# EAGLE library part DF12E(*)-50DP-0.5V (library hirose-df12)
0.5mm Pitch SMT Board to Board Connector Source: http://www.hirose.co.jp/catalogj_hp/jd_DF12_20131205.pdf http://www.hirose.co.jp/cataloge_hp/en_DF12_20130411.pdf
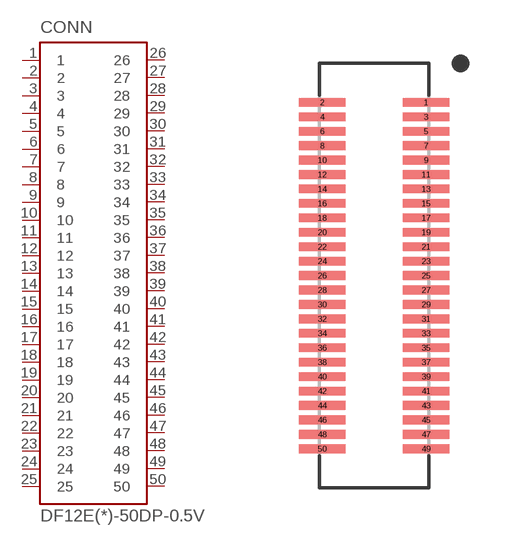
[diagram p37: symbol with the pads of DF12E(*)-50DP-0.5V; footprint DF12E(*)-50DP-0.5V]

Designator prefix CONN

## DF12E(3.0)-50DP-0.5V, DF12E(3.5)-50DP-0.5V, DF12E(4.0)-50DP-0.5V, DF12E(5.0)-50DP-0.5V  [DF12E(*)-50DP-0.5V]
1  1
2  2
3  3
4  4
5  5
6  6
7  7
8  8
9  9
10  10
11  11
12  12
13  13
14  14
15  15
16  16
17  17
18  18
19  19
20  20
21  21
22  22
23  23
24  24
25  25
26  26
27  27
28  28
29  29
30  30
31  31
32  32
33  33
34  34
35  35
36  36
37  37
38  38
39  39
40  40
41  41
42  42
43  43
44  44
45  45
46  46
47  47
48  48
49  49
50  50

## Footprint DF12E(*)-50DP-0.5V (pad centres in mm)
smd 1.6 x 0.3: 1 1.8,6; 2 -1.8,6; 3 1.8,5.5; 4 -1.8,5.5; 5 1.8,5; 6 -1.8,5; 7 1.8,4.5; 8 -1.8,4.5; 9 1.8,4; 10 -1.8,4; 11 1.8,3.5; 12 -1.8,3.5; 13 1.8,3; 14 -1.8,3; 15 1.8,2.5; 16 -1.8,2.5; 17 1.8,2; 18 -1.8,2; 19 1.8,1.5; 20 -1.8,1.5; 21 1.8,1; 22 -1.8,1; 23 1.8,0.5; 24 -1.8,0.5; 25 1.8,0; 26 -1.8,0; 27 1.8,-0.5; 28 -1.8,-0.5; 29 1.8,-1; 30 -1.8,-1; 31 1.8,-1.5; 32 -1.8,-1.5; 33 1.8,-2; 34 -1.8,-2; 35 1.8,-2.5; 36 -1.8,-2.5; 37 1.8,-3; 38 -1.8,-3; 39 1.8,-3.5; 40 -1.8,-3.5; 41 1.8,-4; 42 -1.8,-4; 43 1.8,-4.5; 44 -1.8,-4.5; 45 1.8,-5; 46 -1.8,-5; 47 1.8,-5.5; 48 -1.8,-5.5; 49 1.8,-6; 50 -1.8,-6